# Altium schematic symbol library CH375_SOT28.SchLib: 1 symbol
Pins are listed as number, name and electrical type; pins without a type are passive.

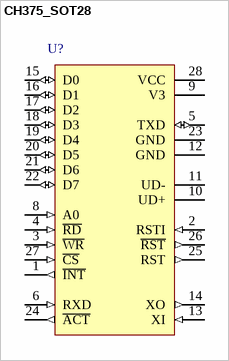
[diagram p0: symbol CH375_SOT28]

## CH375_SOT28
designator U?
pins: 1 ~{INT} (out), 2 RSTI (in), 3 ~{WR} (in), 4 ~{RD} (in), 5 TXD (io), 6 RXD (in), 8 A0 (in), 9 V3 (power), 10 UD+, 11 UD-, 12 GND (power), 13 XI (in), 14 XO (out), 15 D0 (io), 16 D1 (io), 17 D2 (io), 18 D3 (io), 19 D4 (io), 20 D5 (io), 21 D6 (io), 22 D7 (io), 23 GND (power), 24 ~{ACT} (out), 25 RST (out), 26 ~{RST} (out), 27 ~{CS} (in), 28 VCC (power)